# Altium footprint library C1206C683K5RACTU.PcbLib: 3 footprints
Each footprint in its own frame and in the unit in brackets; x right, y up, seen from the top. Pads: shape width x height; smd on the part's side, far side on the other; paste and mask are expansions set on the pad; w line width, h text height; cw(c..) or ccw(c..) is an arc to the next point about the centre after c.
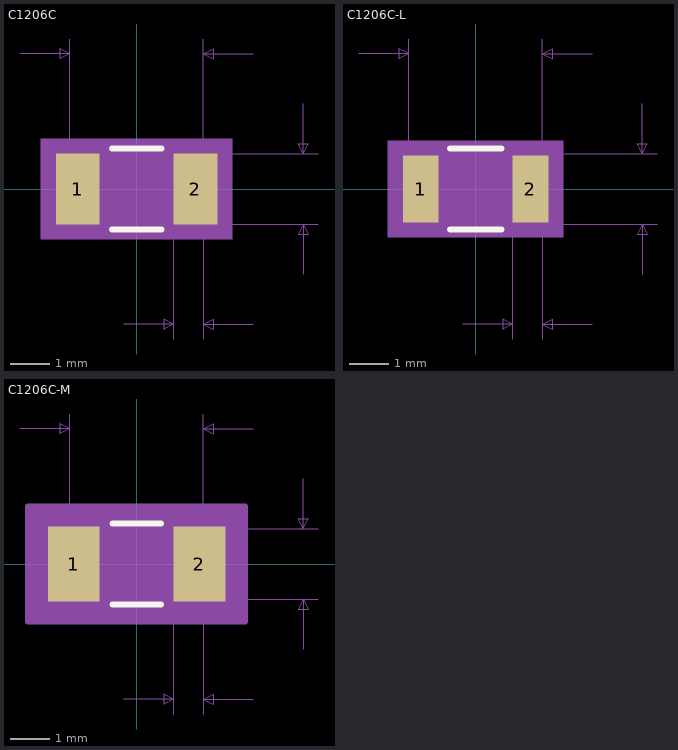
[diagram p0: the footprints below, top view; thin cyan lines are the x and y axes]

## C1206C [mil]
pads (2):
  rect 44x71 smd paste+0 mask+0: 1(-59,0) 2(59,0)
Top Overlay:
  lines w6: -24.89,-40.5 24.89,-40.5 ; -24.89,40.5 24.89,40.5
Mechanical 5:
  region: 96,-50.5 -96,-50.5 -96,50.5 96,50.5
Mechanical 7:
  lines w1: -117,135.5 -67,135.5 ; -67,0 -67,150.5 ; -13,-135.5 37,-135.5 ; 0,-35.5 182,-35.5 ; 0,35.5 182,35.5 ; 37,-150.5 37,0 ; 67,-150.5 67,0 67,150.5 ; 117,-135.5 67,-135.5 ; 117,135.5 67,135.5 ; 167,-85.5 167,-35.5 ; 167,85.5 167,35.5 ; -67,135.5 -77,140.5 -77,130.5 -67,135.5 ; 37,-135.5 27,-130.5 27,-140.5 37,-135.5 ; 67,-135.5 77,-130.5 77,-140.5 67,-135.5 ; 67,135.5 77,140.5 77,130.5 67,135.5 ; 167,-35.5 162,-45.5 172,-45.5 167,-35.5 ; 167,35.5 162,45.5 172,45.5 167,35.5
  text "Default Padstyle: RX44Y71D0T" at -350,-305.5 h50
  text "Alternate 1 Padstyle: OX60Y90D30P" at -412.5,-405.5 h50
  text "Alternate 2 Padstyle: OX90Y60D30P" at -412.5,-505.5 h50
  text "0.071in/1.803mm" at 187,-12.5 h25
  text "0.134in/3.404mm" at -93.75,155.5 h25
  text "0.03in/0.762mm" at -35.5,-180.5 h25
Mechanical 13:
  lines w1: -67,-35.5 -67,35.5 ; -67,-35.5 -37,-35.5 -37,35.5 -67,35.5 ; -67,-35.5 67,-35.5 ; -67,-35.5 -67,35.5 ; -67,35.5 67,35.5 ; 67,-35.5 37,-35.5 37,35.5 67,35.5 ; 67,-35.5 67,35.5 ; 67,-35.5 67,35.5
Mechanical 15:
  region: 91,-45.5 -91,-45.5 -91,45.5 91,45.5
  lines w6: -91,-45.5 -91,45.5 91,45.5 91,-45.5 -91,-45.5
3D body: height 10, standoff 0, extent 0,0 10,10

## C1206C-L [mil]
pads (2):
  rect 36x67 smd paste+0 mask+0: 1(-55,0) 2(55,0)
Top Overlay:
  lines w6: -25.93,-40.5 25.93,-40.5 ; -25.93,40.5 25.93,40.5
Mechanical 5:
  region: 88,-48.5 -88,-48.5 -88,48.5 88,48.5
Mechanical 7:
  lines w1: -117,135.5 -67,135.5 ; -67,0 -67,150.5 ; -13,-135.5 37,-135.5 ; 0,-35.5 182,-35.5 ; 0,35.5 182,35.5 ; 37,-150.5 37,0 ; 67,-150.5 67,0 67,150.5 ; 117,-135.5 67,-135.5 ; 117,135.5 67,135.5 ; 167,-85.5 167,-35.5 ; 167,85.5 167,35.5 ; -67,135.5 -77,140.5 -77,130.5 -67,135.5 ; 37,-135.5 27,-130.5 27,-140.5 37,-135.5 ; 67,-135.5 77,-130.5 77,-140.5 67,-135.5 ; 67,135.5 77,140.5 77,130.5 67,135.5 ; 167,-35.5 162,-45.5 172,-45.5 167,-35.5 ; 167,35.5 162,45.5 172,45.5 167,35.5
  text "Default Padstyle: RX36Y67D0T" at -350,-303.5 h50
  text "Alternate 1 Padstyle: OX60Y90D30P" at -412.5,-403.5 h50
  text "Alternate 2 Padstyle: OX90Y60D30P" at -412.5,-503.5 h50
  text "0.071in/1.803mm" at 187,-12.5 h25
  text "0.134in/3.404mm" at -93.75,155.5 h25
  text "0.03in/0.762mm" at -35.5,-180.5 h25
Mechanical 13:
  lines w1: -67,-35.5 -67,35.5 ; -67,-35.5 -37,-35.5 -37,35.5 -67,35.5 ; -67,-35.5 67,-35.5 ; -67,-35.5 -67,35.5 ; -67,35.5 67,35.5 ; 67,-35.5 37,-35.5 37,35.5 67,35.5 ; 67,-35.5 67,35.5 ; 67,-35.5 67,35.5
Mechanical 15:
  region: 77,-37.5 -77,-37.5 -77,37.5 77,37.5
  lines w6: -77,-37.5 -77,37.5 77,37.5 77,-37.5 -77,-37.5
3D body: height 10, standoff 0, extent 0,0 10,10

## C1206C-M [mil]
pads (2):
  rect 52x75 smd paste+0 mask+0: 1(-63,0) 2(63,0)
Top Overlay:
  lines w6: -24.25,-40.5 24.25,-40.5 ; -24.25,40.5 24.25,40.5
Mechanical 5:
  region: 104,-52.5 -104,-52.5 -104,52.5 104,52.5
Mechanical 7:
  lines w1: -117,135.5 -67,135.5 ; -67,0 -67,150.5 ; -13,-135.5 37,-135.5 ; 0,-35.5 182,-35.5 ; 0,35.5 182,35.5 ; 37,-150.5 37,0 ; 67,-150.5 67,0 67,150.5 ; 117,-135.5 67,-135.5 ; 117,135.5 67,135.5 ; 167,-85.5 167,-35.5 ; 167,85.5 167,35.5 ; -67,135.5 -77,140.5 -77,130.5 -67,135.5 ; 37,-135.5 27,-130.5 27,-140.5 37,-135.5 ; 67,-135.5 77,-130.5 77,-140.5 67,-135.5 ; 67,135.5 77,140.5 77,130.5 67,135.5 ; 167,-35.5 162,-45.5 172,-45.5 167,-35.5 ; 167,35.5 162,45.5 172,45.5 167,35.5
  text "Default Padstyle: RX52Y75D0T" at -350,-307.5 h50
  text "Alternate 1 Padstyle: OX60Y90D30P" at -412.5,-407.5 h50
  text "Alternate 2 Padstyle: OX90Y60D30P" at -412.5,-507.5 h50
  text "0.071in/1.803mm" at 187,-12.5 h25
  text "0.134in/3.404mm" at -93.75,155.5 h25
  text "0.03in/0.762mm" at -35.5,-180.5 h25
Mechanical 13:
  lines w1: -67,-35.5 -67,35.5 ; -67,-35.5 -37,-35.5 -37,35.5 -67,35.5 ; -67,-35.5 67,-35.5 ; -67,-35.5 -67,35.5 ; -67,35.5 67,35.5 ; 67,-35.5 37,-35.5 37,35.5 67,35.5 ; 67,-35.5 67,35.5 ; 67,-35.5 67,35.5
Mechanical 15:
  region: 109,-57.5 -109,-57.5 -109,57.5 109,57.5
  lines w6: -109,-57.5 -109,57.5 109,57.5 109,-57.5 -109,-57.5
3D body: height 10, standoff 0, extent 0,0 10,10